# EAGLE library part HX711 (library hx711)
HX711 module is a Load Cell Amplifier breakout board for the HX711 IC that allows you to easily read load cells to measure weight. This module uses 24 high precision A/D converter chip HX711. It is a specially designed for the high precision electronic scale design, with two analog input channel, the internal integration of 128 times the programmable gain amplifier. The input circuit can be configured to provide a bridge type pressure bridge (such as pressure, weighing sensor mode), is of high precision, low cost is an ideal sampling front-end module.
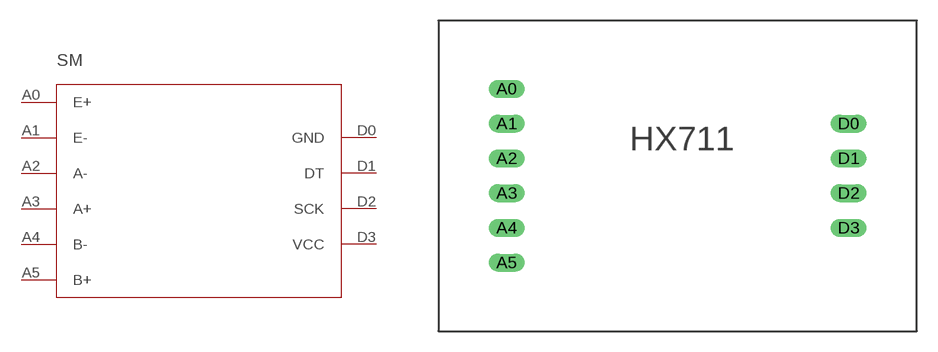
[diagram p0: symbol with the pads of HX711; footprint HX711]

Designator prefix SM

## HX711  [HX711]
A0  E+
A1  E-
A2  A-
A3  A+
A4  B-
A5  B+
D0  GND
D1  DT
D2  SCK
D3  VCC

## Footprint HX711 (pad centres in mm)
drill 0.8 long: A0 -12.5,6.35; A1 -12.5,3.81; A2 -12.5,1.27; A3 -12.5,-1.27; A4 -12.5,-3.81; A5 -12.5,-6.35; D0 12.5,3.81; D1 12.5,1.27; D2 12.5,-1.27; D3 12.5,-3.81